# Altium footprint library SIMHolder.PcbLib: 1 footprints
Each footprint in its own frame and in the unit in brackets; x right, y up, seen from the top. Pads: shape width x height; smd on the part's side, far side on the other; paste and mask are expansions set on the pad; w line width, h text height; cw(c..) or ccw(c..) is an arc to the next point about the centre after c.
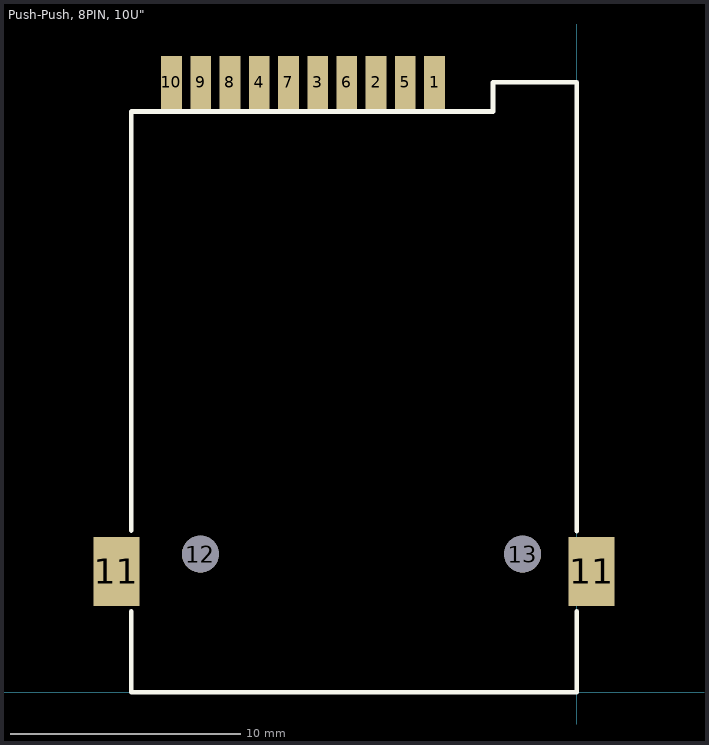
[diagram p0: the footprint, top view; thin cyan lines are the x and y axes]

## Push-Push, 8PIN, 10U" [mm]
pads (14):
  rect 0.9x2.3 smd: 1(-6.175,26.5) 2(-8.715,26.5) 3(-11.255,26.5) 4(-13.795,26.5) 5(-7.445,26.5) 6(-9.985,26.5) 7(-12.525,26.5) 8(-15.065,26.5) 9(-16.335,26.5) 10(-17.605,26.5)
  rect 2x3 smd: 11(-20,5.25) 11(0.65,5.25)
  round 1.6 hole 1.6: 12(-16.35,6) 13(-2.35,6)
Top Overlay:
  lines w0.2: -19.35,3.525 -19.35,0 0,0 0,3.525 ; -19.35,7.025 -19.35,25.23 -3.635,25.23 -3.635,26.5 0,26.5 0,7
3D body: height 1.81, standoff 0.01, extent -20.175,0 0.775,27